# EAGLE library part USB_TYPE_C (library Eric Navarrete Custom Parts Feb 2019)
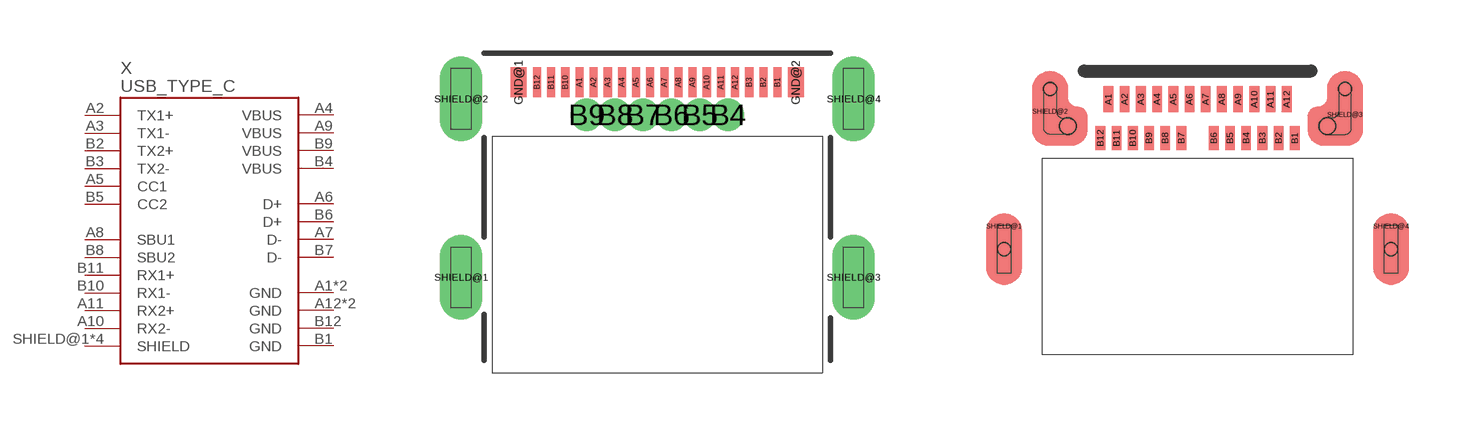
[diagram p40: symbol with the pads of HIROSE_CX70M-24P1; footprints HIROSE_CX70M-24P1, TE_2295018-2]

Designator prefix X

## USB_TYPE_CMID_MOUNT  [HIROSE_CX70M-24P1]
A1  GND  pwr
A2  TX1+
A3  TX1-
A4  VBUS  pwr
A5  CC1
A6  D+
A7  D-
A8  SBU1
A9  VBUS  pwr
A10  RX2-
A11  RX2+
A12  GND  pwr
B1  GND  pwr
B2  TX2+
B3  TX2-
B4  VBUS  pwr
B5  CC2
B6  D+
B7  D-
B8  SBU2
B9  VBUS  pwr
B10  RX1-
B11  RX1+
B12  GND  pwr
GND@1  GND  pwr
GND@2  GND  pwr
SHIELD@1  SHIELD  pwr
SHIELD@2  SHIELD  pwr
SHIELD@3  SHIELD  pwr
SHIELD@4  SHIELD  pwr

## USB_TYPE_CSPLASH_PROOF  [TE_2295018-2]
A1  GND  pwr
A2  TX1+
A3  TX1-
A4  VBUS  pwr
A5  CC1
A6  D+
A7  D-
A8  SBU1
A9  VBUS  pwr
A10  RX2-
A11  RX2+
A12  GND  pwr
B1  GND  pwr
B2  TX2+
B3  TX2-
B4  VBUS  pwr
B5  CC2
B6  D+
B7  D-
B8  SBU2
B9  VBUS  pwr
B10  RX1-
B11  RX1+
B12  GND  pwr
SHIELD@1  SHIELD  pwr
SHIELD@2  SHIELD  pwr
SHIELD@3  SHIELD  pwr
SHIELD@4  SHIELD  pwr

## Footprint HIROSE_CX70M-24P1 (pad centres in mm)
smd 0.23 x 0.85: A1 -2.2,1.47; A2 -1.8,1.47; A3 -1.4,1.47; A4 -1,1.47; A5 -0.6,1.47; A6 -0.2,1.47; A7 0.2,1.47; A8 0.6,1.47; A9 1,1.47; A10 1.4,1.47; A11 1.8,1.47; A12 2.2,1.47; B1 3.4,1.47; B2 3,1.47; B3 2.6,1.47; B10 -2.6,1.47; B11 -3,1.47; B12 -3.4,1.47
drill 0.4 pad 0.6: B4 2,0.55; B5 1.2,0.55; B6 0.4,0.55; B7 -0.4,0.55; B8 -1.2,0.55; B9 -2,0.55
smd 0.46 x 0.85: GND@1 -3.92,1.47; GND@2 3.92,1.47
drill 0.6 pad 1.2 long: SHIELD@1 -5.55,-4.05; SHIELD@2 -5.55,1; SHIELD@3 5.55,-4.05; SHIELD@4 5.55,1

## Footprint TE_2295018-2 (pad centres in mm)
smd 0.3 x 0.8: A1 -2.75,4.63; A2 -2.25,4.63; A3 -1.75,4.63; A4 -1.25,4.63; A5 -0.75,4.63; A6 -0.25,4.63; A7 0.25,4.63; A8 0.75,4.63; A9 1.25,4.63; A10 1.75,4.63; A11 2.25,4.63; A12 2.75,4.63
smd 0.3 x 0.75: B1 3,3.43; B2 2.5,3.43; B3 2,3.43; B4 1.5,3.43; B5 1,3.43; B6 0.5,3.43; B7 -0.5,3.43; B8 -1,3.43; B9 -1.5,3.43; B10 -2,3.43; B11 -2.5,3.43; B12 -3,3.43
smd 0.5 x 0.5: SHIELD@1 -5.97,0.7; SHIELD@2 -4.55,4.245; SHIELD@3 4.55,4.145; SHIELD@4 5.97,0.7
hole 0.4 at -5.97,0
hole 0.5 at 4,3.795
hole 0.4 at 4.55,4.945
hole 0.5 at -4,3.795
hole 0.4 at -4.55,4.945
hole 0.4 at 5.97,0